# EAGLE library part SD-HOLDER (library sdcard)
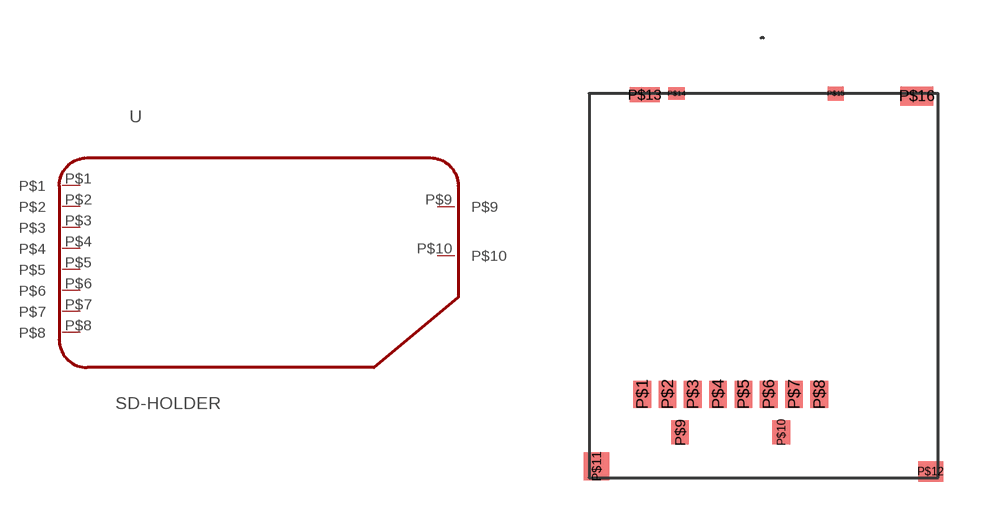
[diagram p0: symbol with the pads of SCHA; footprint SCHA]

Designator prefix -

## SD-HOLDER  [SCHA]
P$1  P$1
P$2  P$2
P$3  P$3
P$4  P$4
P$5  P$5
P$6  P$6
P$7  P$7
P$8  P$8
P$9  P$9
P$10  P$10

## Footprint SCHA (pad centres in mm)
smd 0.7 x 1.05: P$1 -4.8,3.3; P$2 -3.8,3.3; P$3 -2.8,3.3; P$4 -1.8,3.3; P$5 -0.8,3.3; P$6 0.2,3.3; P$7 1.2,3.3; P$8 2.2,3.3
smd 0.7 x 0.95: P$9 -3.3,1.8; P$10 0.7,1.8
smd 1 x 1.1: P$11 -6.6,0.45
smd 0.98 x 0.8: P$12 6.6,0.25
smd 1.2 x 0.6: P$13 -4.7,15.15
smd 0.65 x 0.5: P$14 -3.45,15.2
smd 0.65 x 0.55: P$15 2.85,15.2
smd 1.3 x 0.75: P$16 6.05,15.1